# Altium schematic symbol library 2pin-nanofit.SchLib: 1 symbol
Pins are listed as number, name and electrical type; pins without a type are passive.

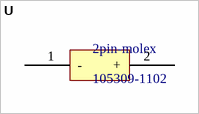
[diagram p0: symbol U]

## U
designator 2pin-molex, comment 105309-1102
Nano-Fit Vertical Header, Through Hole, 2.50mm Pitch, Single Row, 2 Circuits, with Kinked Pins, Tin (Sn) Plating, Black
pins: 1 -, 2 +